# Altium schematic symbol library BH3.5-2P.Schlib: 1 symbol
Pins are listed as number, name and electrical type; pins without a type are passive.

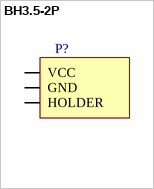
[diagram p0: symbol BH3.5-2P]

## BH3.5-2P
designator P?
3.5mm Pitch, 2 Pin, SMD, Right LCD Back-Light Connector
pins: 1 VCC, 2 GND, 3 HOLDER